# EAGLE library part MEC3FTL688 (library switch-misc)
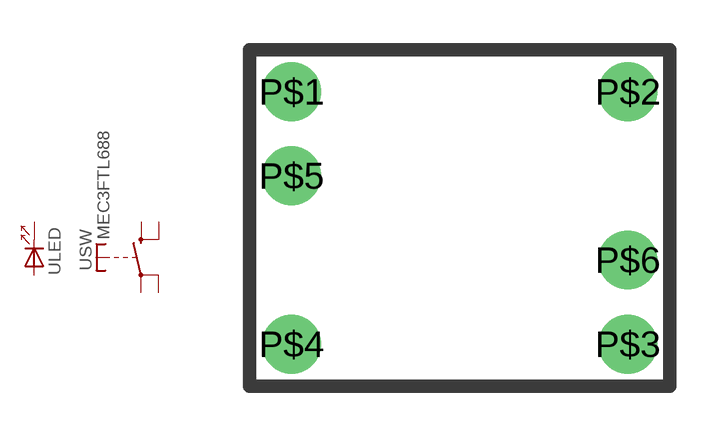
[diagram p10: symbol with the pads of MEC3FTL688; footprint MEC3FTL688]

Designator prefix -; gates LED=KEY-LED SW=TS2

## MEC3FTL688  [MEC3FTL688]
P$1  SW:P  pas
P$2  SW:P  pas
P$3  SW:S  pas
P$4  SW:S  pas
P$5  LED:A  pas
P$6  LED:C  pas

## Footprint MEC3FTL688 (pad centres in mm)
drill 0.9 pad 1.778 round: P$1 -5.08,3.81; P$2 5.08,3.81; P$3 5.08,-3.81; P$4 -5.08,-3.81; P$5 -5.08,1.27; P$6 5.08,-1.27